# Altium schematic symbol library SCH - MCU - ATTINY - MICROCHIP ATTINY24A-CCU UFBGA16.SchLib: 1 symbol
Pins are listed as number, name and electrical type; pins without a type are passive.

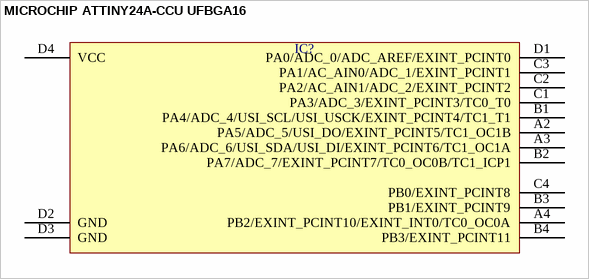
[diagram p0: symbol MICROCHIP ATTINY24A-CCU UFBGA16]

## MICROCHIP ATTINY24A-CCU UFBGA16
designator IC?  (value not drawn)
pins: A2 PA5/ADC_5/USI_DO/EXINT_PCINT5/TC1_OC1B, A3 PA6/ADC_6/USI_SDA/USI_DI/EXINT_PCINT6/TC1_OC1A, A4 PB2/EXINT_PCINT10/EXINT_INT0/TC0_OC0A, B1 PA4/ADC_4/USI_SCL/USI_USCK/EXINT_PCINT4/TC1_T1, B2 PA7/ADC_7/EXINT_PCINT7/TC0_OC0B/TC1_ICP1, B3 PB1/EXINT_PCINT9, B4 PB3/EXINT_PCINT11, C1 PA3/ADC_3/EXINT_PCINT3/TC0_T0, C2 PA2/AC_AIN1/ADC_2/EXINT_PCINT2, C3 PA1/AC_AIN0/ADC_1/EXINT_PCINT1, C4 PB0/EXINT_PCINT8, D1 PA0/ADC_0/ADC_AREF/EXINT_PCINT0, D2 GND, D3 GND, D4 VCC